# EAGLE library part LTC6902* (library linear-technology-3)
Multiphase Oscillator with Spread Spectrum Frequency Modulation
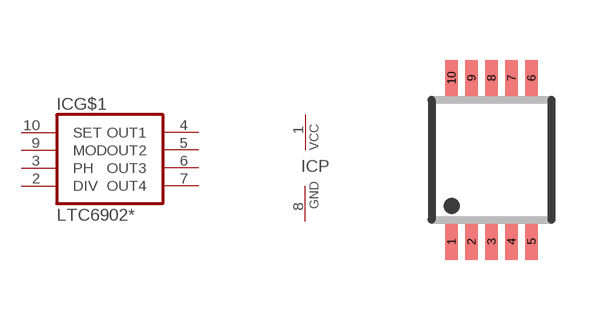
[diagram p47: symbol with the pads of MSOP10; footprint MSOP10]

Designator prefix IC; gates G$1=LTC6902 P=PWRN-C-G

## LTC6902CMS, LTC6902IMS  [MSOP10]
1  P:VCC  pwr
2  G$1:DIV  pas
3  G$1:PH  pas
4  G$1:OUT1  out
5  G$1:OUT2  out
6  G$1:OUT3  out
7  G$1:OUT4  out
8  P:GND  pwr
9  G$1:MOD  in
10  G$1:SET  in

## Footprint MSOP10 (pad centres in mm)
smd 0.31 x 0.9: 1 -1,-2.05; 2 -0.5,-2.05; 3 0,-2.05; 4 0.5,-2.05; 5 1,-2.05; 6 1,2.05; 7 0.5,2.05; 8 0,2.05; 9 -0.5,2.05; 10 -1,2.05